# EAGLE library part 74X4050-HEX-NON-INVERTING-BUFFER (library FlashPCB_ICs)
74X4050 - Hex Non-Inverting Buffer Technical Specifications: Logic Type: Buffer, Non-Inverting Number of Elements: 6 Number of Bits per Element: 1 Component Search: [DATA SHEET NAME] <[FLASHPCB URL]> Datasheet: 74HC4050 <https://www.ti.com/lit/ds/symlink/cd74hc4049.pdf?HQS=dis-dk-null-digikeymode-dsf-pf-null-wwe&ts=1676576406485&ref_url=https%253A%252F%252Fwww.ti.com%252Fgeneral%252Fdocs%252Fsuppproductinfo.tsp%253FdistId%253D10%2526gotoUrl%253Dhttps%253A%252F%252Fwww.ti.com%252Flit%252Fgpn%252Fcd74hc4049>
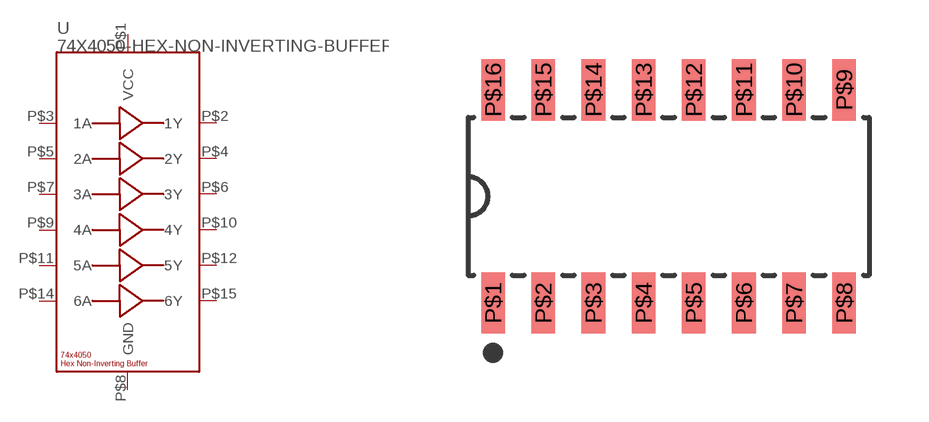
[diagram p5: symbol with the pads of SOIC-16-150MIL-3.9MM; footprint SOIC-16-150MIL-3.9MM]

Designator prefix U

## 74X4050-HEX-NON-INVERTING-BUFFERSOIC  [SOIC-16-150MIL-3.9MM]
P$1  VCC
P$2  1Y
P$3  1A
P$4  2Y
P$5  2A
P$6  3Y
P$7  3A
P$8  GND
P$9  4A
P$10  4Y
P$11  5A
P$12  5Y
P$14  6A
P$15  6Y

## Footprint SOIC-16-150MIL-3.9MM (pad centres in mm)
smd 0.6 x 1.55: P$1 -4.445,-2.7; P$2 -3.175,-2.7; P$3 -1.905,-2.7; P$4 -0.635,-2.7; P$5 0.635,-2.7; P$6 1.905,-2.7; P$7 3.175,-2.7; P$8 4.445,-2.7; P$9 4.445,2.7; P$10 3.175,2.7; P$11 1.905,2.7; P$12 0.635,2.7; P$13 -0.635,2.7; P$14 -1.905,2.7; P$15 -3.175,2.7; P$16 -4.445,2.7